# Altium schematic symbol library diode_0.Schlib: 1 symbol
Pins are listed as number, name and electrical type; pins without a type are passive.

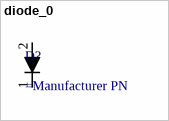
[diagram p0: symbol diode_0]

## diode_0
designator D?
Standard Diode
pins: 1, 2